# EAGLE library part APA102-2020 (library jason_eagle6)
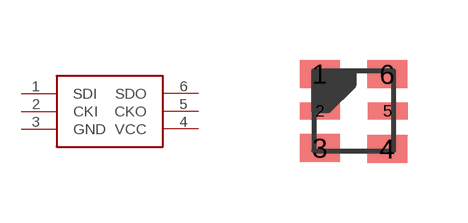
[diagram p36: symbol with the pads of APA102-2020; footprint APA102-2020]

Designator prefix -

## APA102-2020  [APA102-2020]
1  SDI
2  CKI
3  GND  pwr
4  VCC  pwr
5  CKO
6  SDO

## Footprint APA102-2020 (pad centres in mm)
smd 1 x 0.7: 1 -0.85,0.93; 3 -0.84,-0.93; 4 0.84,-0.95; 6 0.84,0.92
smd 1 x 0.42: 2 -0.85,0; 5 0.85,0